# EAGLE library part TS3A4751 (library BiphasicBoard)
TS3A4751 Quad Switch
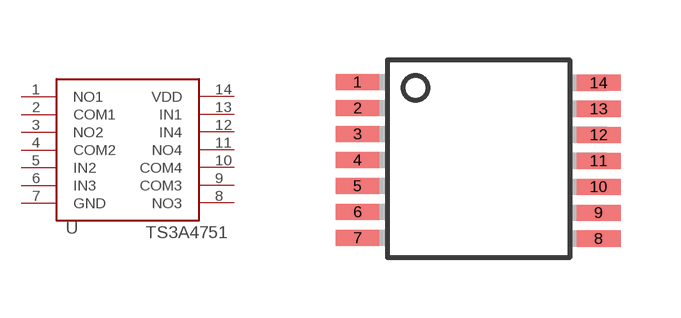
[diagram p0: symbol with the pads of 14_PIN; footprint 14_PIN]

Designator prefix -

## TS3A4751  [14_PIN]
1  NO1
2  COM1
3  NO2
4  COM2
5  IN2
6  IN3
7  GND
8  NO3
9  COM3
10  COM4
11  NO4
12  IN4
13  IN1
14  VDD

## Footprint 14_PIN (pad centres in mm)
smd 1.1 x 0.4: 1 -3.26,1.165; 2 -3.26,0.515; 3 -3.26,-0.135; 4 -3.26,-0.785; 5 -3.26,-1.435; 6 -3.26,-2.085; 7 -3.26,-2.735; 8 2.77,-2.755; 9 2.77,-2.105; 10 2.77,-1.455; 11 2.77,-0.805; 12 2.77,-0.155; 13 2.77,0.495; 14 2.77,1.145